# Altium schematic symbol library FB0603.SchLib: 6 symbols
Pins are listed as number, name and electrical type; pins without a type are passive.

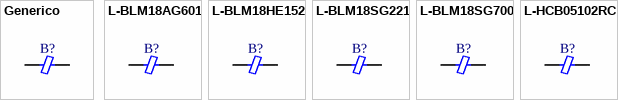
[diagram p0: symbols Generico to L-HCB05102RC]

## Generico
designator B?
Manufacturer Part Number: *; Working Temperature: *; Temperature Coefficient: *; Mounting: *; Short Description: *; Power: *; Ratings: *; Type: *; Frequency: *; Alternate Part Number 1: *; Alternate Part Number 2: *; Manufacturer: *; Tolerance: *; Current: *; Revision Date: *; Package Reference: *; Voltage: *; Value: *
footprint FB0603 (Footprint not found)
pins: 1, 2

## L-BLM18AG601
designator B?
600 Ohms @ 100 MHz 1 - Ferrite Bead 0603 (1608 Metric) 500mA 380mOhm; Manufacturer Part Number: BLM18AG601SN1D; Manufacturer: Murata Electronics; Working Temperature: -55°C ~ 125°C; Temperature Coefficient: NC; Short Description: FERRITE BEAD 600 OHM 0603 1LN; Ratings: ROHS3; Mounting: SMT; Power: NC; Type: Ferrite; Frequency: NC; Alternate Part Number 1: *; Alternate Part Number 2: *; Tolerance: NC; Current: 500mA; Revision Date: 02/08/21; Package Reference: 0603; Voltage: NC; Value: 600 Ohms @ 100 MHz
footprint FB0603 (Footprint not found)
pins: 1, 2

## L-BLM18HE152
designator B?
1.5 kOhms @ 100 MHz 1 Signal Line Ferrite Bead 0603 (1608 Metric) 500mA 500mOhm; Manufacturer Part Number: BLM18HE152SZ1D; Manufacturer: Murata Electronics; Working Temperature: -55°C ~ 125°C; Temperature Coefficient: NC; Short Description: FERRITE BEAD 1.5K OHM 0603 1LN; Ratings: ROHS3-AEC-Q200; Mounting: SMT; Power: NC; Type: Ferrite; Frequency: NC; Alternate Part Number 1: *; Alternate Part Number 2: *; Tolerance: NC; Current: 500mA; Revision Date: 18/04/23; Package Reference: 0603; Voltage: NC; Value: 1.5 kOhms @ 100 MHz
footprint FB0603 (Footprint not found)
pins: 1, 2

## L-BLM18SG221
designator B?
220 Ohms @ 100 MHz 1 Power Line Ferrite Bead 0603 (1608 Metric) 2.5A 40mOhm; Manufacturer Part Number: BLM18SG221TN1D; Manufacturer: Murata Electronics; Working Temperature: -55°C ~ 125°C; Temperature Coefficient: NC; Short Description: FERRITE BEAD 220 OHM 0603 1LN; Ratings: ROHS3; Mounting: SMT; Power: NC; Type: Ferrite; Frequency: NC; Alternate Part Number 1: *; Alternate Part Number 2: *; Tolerance: NC; Current: 2.5A; Revision Date: 02/08/21; Package Reference: 0603; Voltage: NC; Value: 220 Ohms @ 100 MHz
footprint FB0603 (Footprint not found)
pins: 1, 2

## L-BLM18SG700
designator B?
70 Ohms @ 100 MHz 1 Power Line Ferrite Bead 0603 (1608 Metric) 4A 20mOhm; Manufacturer Part Number: BLM18SG700TN1D; Manufacturer: Murata Electronics; Working Temperature: -55°C ~ 125°C; Temperature Coefficient: NC; Short Description: FERRITE BEAD 70 OHM 0603 1LN; Ratings: ROHS3; Mounting: SMT; Power: NC; Type: Ferrite; Frequency: NC; Alternate Part Number 1: *; Alternate Part Number 2: *; Tolerance: NC; Current: 4A; Revision Date: 02/08/21; Package Reference: 0603; Voltage: NC; Value: 70 Ohms @ 100 MHz
footprint FB0603 (Footprint not found)
pins: 1, 2

## L-HCB05102RC
designator B?
1 kOhms @ 100 MHz 1 Power Line Ferrite Bead 0603 (1608 Metric) 800mA 20mOhm; Manufacturer Part Number: HCB05-102-RC; Manufacturer: Allied Components International; Working Temperature: -55°C ~ 125°C; Temperature Coefficient: NC; Short Description: FERRITE BEAD 1K OHM 0603 1LN; Ratings: ROHS; Mounting: SMT; Power: NC; Type: Ferrite; Frequency: NC; Alternate Part Number 1: *; Alternate Part Number 2: *; Tolerance: NC; Current: 800mA; Revision Date: 18/04/23; Package Reference: 0603; Voltage: NC; Value: 1 kOhms @ 100 MHz
footprint FB0603 (Footprint not found)
pins: 1, 2